# Altium schematic symbol library CU8965.SchLib: 2 symbols
Pins are listed as number, name and electrical type; pins without a type are passive.

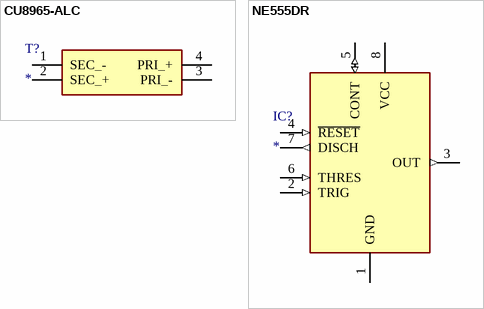
[diagram p0: symbols CU8965-ALC to NE555DR]

## CU8965-ALC
designator T?
Transformer; Manufacturer_Name: COILCRAFT; Manufacturer_Part_Number: CU8965-ALC; Datasheet Link: https://www.mouser.co.uk/datasheet/2/597/cu8965-774485.pdf; Height: 3mm
footprint CU8965ALD
pins: 1 SEC_-, 2 SEC_+, 3 PRI_-, 4 PRI_+

## NE555DR
designator IC?
Integrated Circuit; Manufacturer_Name: Texas Instruments; Manufacturer_Part_Number: NE555DR; Datasheet Link: http://www.ti.com/lit/ds/symlink/ne555.pdf; Height: 1.75mm; Mouser Part Number: 595-NE555DR; Mouser Price/Stock: https://www.mouser.com/Search/Refine.aspx?Keyword=595-NE555DR; RS Part Number: 1218414; RS Price/Stock: http://uk.rs-online.com/web/p/products/1218414
footprint SOIC127P600X175-8N
pins: 1 GND (power), 2 TRIG (in), 3 OUT (out), 4 ~{RESET} (in), 5 CONT (io), 6 THRES (in), 7 DISCH (out), 8 VCC (power)